# Altium footprint library LGA-14L.PcbLib: 1 footprints
Each footprint in its own frame and in the unit in brackets; x right, y up, seen from the top. Pads: shape width x height; smd on the part's side, far side on the other; paste and mask are expansions set on the pad; w line width, h text height; cw(c..) or ccw(c..) is an arc to the next point about the centre after c.
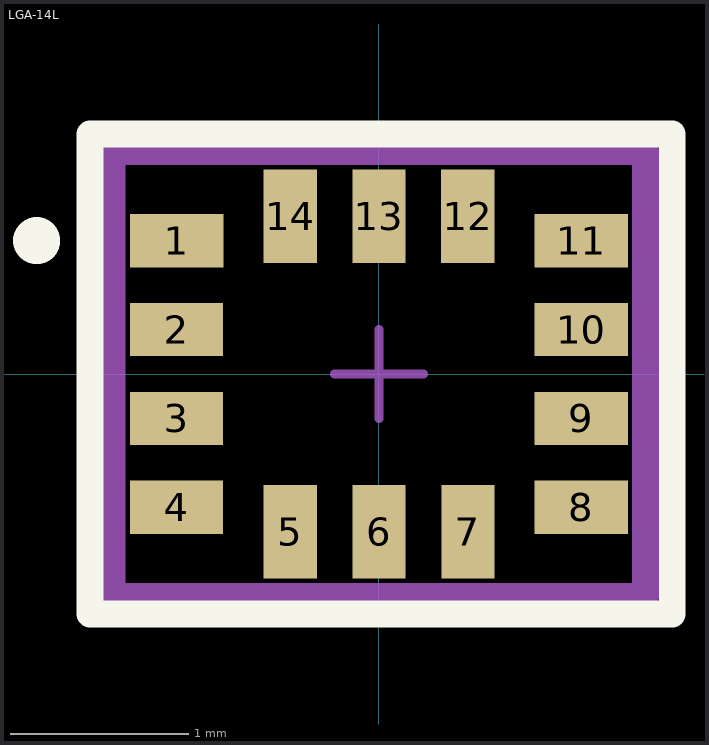
[diagram p0: the footprint, top view; thin cyan lines are the x and y axes]

## LGA-14L [mm]
pads (14):
  rect 0.525x0.3 smd mask+0.051: 1(-1.138,0.75) 2(-1.138,0.25) 3(-1.138,-0.25) 4(-1.138,-0.75) 8(1.139,-0.75) 9(1.139,-0.25) 10(1.139,0.25) 11(1.139,0.75)
  rect 0.3x0.525 smd mask+0.051: 5(-0.499,-0.887) 6(0.001,-0.887) 7(0.501,-0.887) 12(0.501,0.888) 13(0.001,0.888) 14(-0.499,0.888)
Top Overlay:
  circle w0.254: c-1.925,0.75 r0.005
  lines w0.15: -1.625,-1.35 -1.625,1.35 1.65,1.35 1.65,-1.35 -1.625,-1.35
Mechanical 13:
  lines w0.15: -1.5,-1.25 1.5,-1.25 1.5,1.25 -1.5,1.25 -1.5,-1.25
Mechanical 15:
  lines w0.05: -0.25,0 0,0 ; 0,0 0,0.25 0,0 ; 0,0 0.25,0 0,0 ; 0,0 0,-0.25 0,0
3D body "LGA-14L.STEP": height 0.86, standoff 0, extent -1.499,-1.25 1.501,1.25